# Altium schematic symbol library ESP32-S2.Schlib: 1 symbol
Pins are listed as number, name and electrical type; pins without a type are passive.

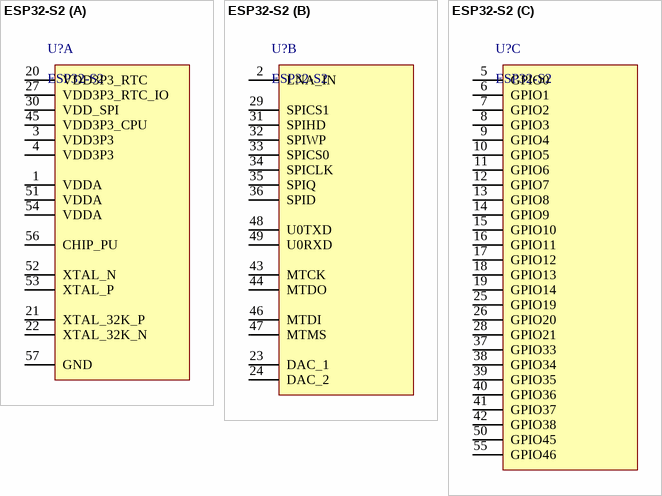
[diagram p0: symbol ESP32-S2]

## ESP32-S2
designator U?
WiFi 802.11b/g/n Transceiver Module 2.4GHz Antenna Not Included Surface Mount
part A pins: 1 VDDA, 3 VDD3P3, 4 VDD3P3, 20 VDD3P3_RTC, 21 XTAL_32K_P, 22 XTAL_32K_N, 27 VDD3P3_RTC_IO, 30 VDD_SPI, 45 VDD3P3_CPU, 51 VDDA, 52 XTAL_N, 53 XTAL_P, 54 VDDA, 56 CHIP_PU, 57 GND
part B pins: 2 LNA_IN, 23 DAC_1, 24 DAC_2, 29 SPICS1, 31 SPIHD, 32 SPIWP, 33 SPICS0, 34 SPICLK, 35 SPIQ, 36 SPID, 43 MTCK, 44 MTDO, 46 MTDI, 47 MTMS, 48 U0TXD, 49 U0RXD
part C pins: 5 GPIO0, 6 GPIO1, 7 GPIO2, 8 GPIO3, 9 GPIO4, 10 GPIO5, 11 GPIO6, 12 GPIO7, 13 GPIO8, 14 GPIO9, 15 GPIO10, 16 GPIO11, 17 GPIO12, 18 GPIO13, 19 GPIO14, 25 GPIO19, 26 GPIO20, 28 GPIO21, 37 GPIO33, 38 GPIO34, 39 GPIO35, 40 GPIO36, 41 GPIO37, 42 GPIO38, 50 GPIO45, 55 GPIO46